# Altium footprint library KF2EDGK5.08.PcbLib: 29 footprints (part 2 of 2)
Each footprint in its own frame and in the unit in brackets; x right, y up, seen from the top. Pads: shape width x height; smd on the part's side, far side on the other; paste and mask are expansions set on the pad; w line width, h text height; cw(c..) or ccw(c..) is an arc to the next point about the centre after c.
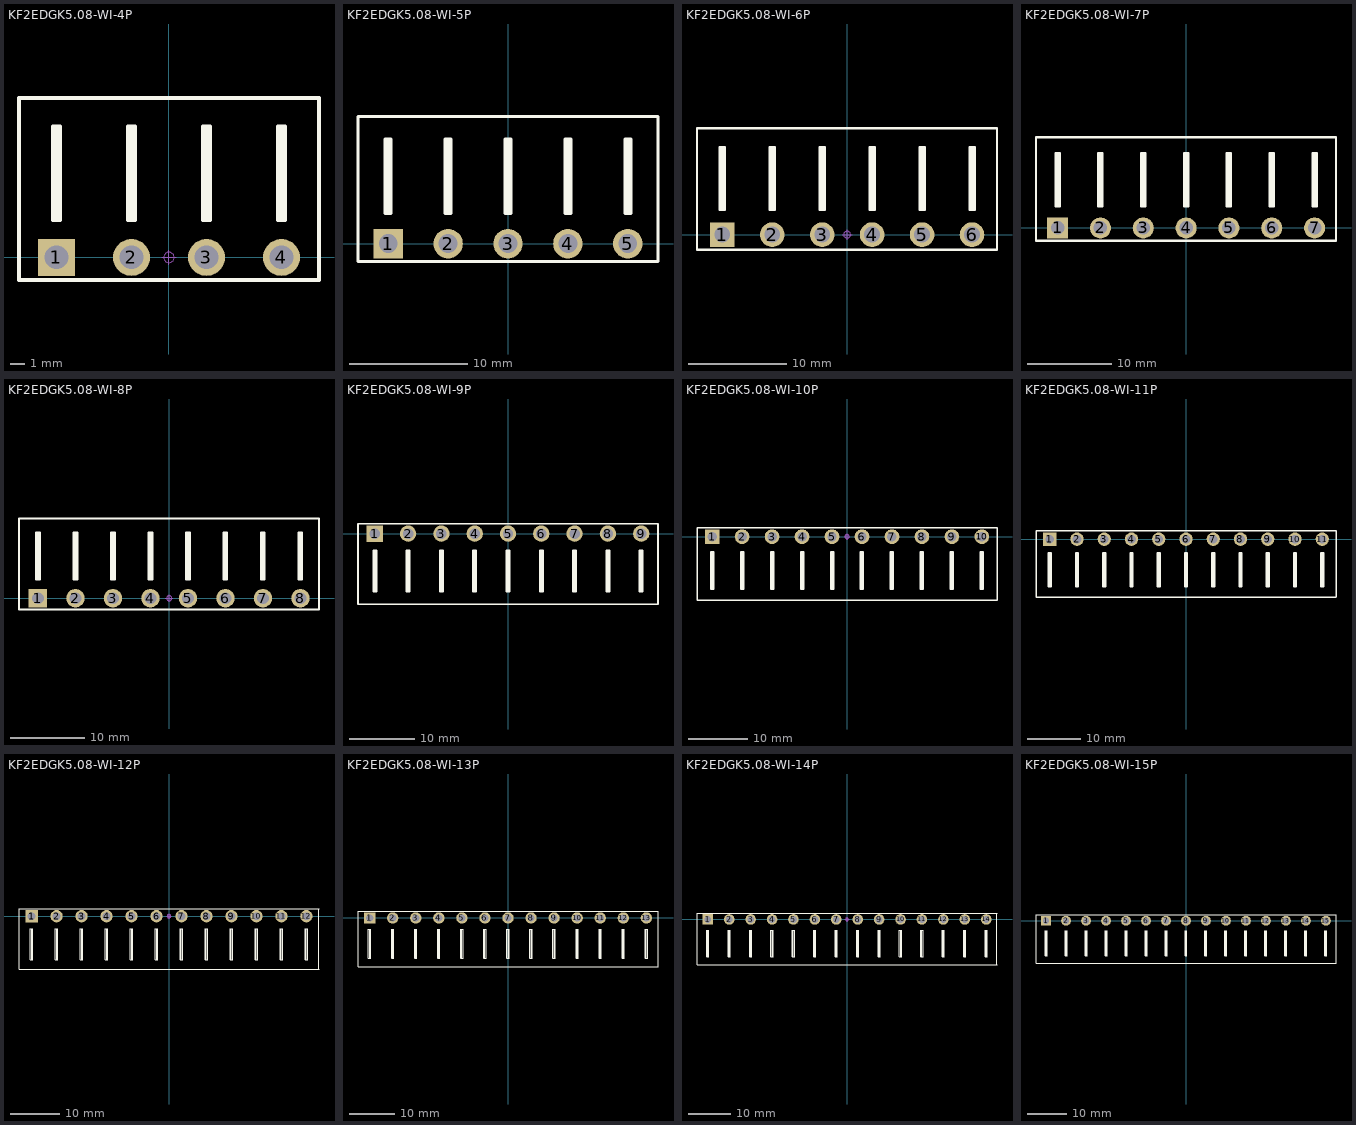
[diagram p1: the footprints below, top view; thin cyan lines are the x and y axes]

## KF2EDGK5.08-WI-4P [mm] "卧插端子"
pads (4):
  rect 2.5x2.5 hole 1.6: 1(-7.62,0)
  round 2.5 hole 1.6: 2(-2.54,0) 3(2.54,0) 4(7.62,0)
Top Overlay:
  lines w0.254: -7.62,2.54 -7.62,8.89 ; -2.54,2.54 -2.54,8.89 ; 2.54,2.54 2.54,8.89 ; 7.62,2.54 7.62,8.89 ; -7.62,8.89 -7.874,8.89 -7.874,2.54 -7.366,2.54 -7.366,8.89 -7.62,8.89 ; -2.54,8.89 -2.286,8.89 -2.286,2.54 -2.794,2.54 -2.794,8.89 -2.54,8.89 ; 2.54,8.89 2.794,8.89 2.794,2.54 2.286,2.54 2.286,8.89 2.54,8.89 ; 7.62,8.89 7.874,8.89 7.874,2.54 7.366,2.54 7.366,8.89 7.62,8.89 ; -10.16,-1.524 -10.16,10.795 10.16,10.795 10.16,-1.524 -10.16,-1.524
Mechanical 15:
  circle w0.05: c0,0 r0.35
  lines w0.05: -0.5,0 0.5,0 ; 0,-0.5 0,0.5
3D body "KF2EDGK-1P_H.STEP": height 8.5, standoff -3, extent 5.08,-0.5 10.16,10.8
3D body "KF2EDGK-1P_H.STEP": height 8.5, standoff -3, extent 0,-0.5 5.08,10.8
3D body "KF2EDGK-1P_H.STEP": height 8.5, standoff -3, extent -5.08,-0.5 0,10.8
3D body "KF2EDGK-1P_H.STEP": height 8.5, standoff -3, extent -10.16,-0.5 -5.08,10.8

## KF2EDGK5.08-WI-5P [mm] "卧插端子"
pads (5):
  rect 2.5x2.5 hole 1.6: 1(-10.16,0)
  round 2.5 hole 1.6: 2(-5.08,0) 3(0,0) 4(5.08,0) 5(10.16,0)
Top Overlay:
  lines w0.254: -10.16,2.54 -10.16,8.89 ; -5.08,2.54 -5.08,8.89 ; 0,2.54 0,8.89 ; 5.08,2.54 5.08,8.89 ; 10.16,2.54 10.16,8.89 ; -10.16,8.89 -9.906,8.89 -9.906,2.54 -10.414,2.54 -10.414,8.89 -10.16,8.89 ; -5.08,8.89 -4.826,8.89 -4.826,2.54 -5.334,2.54 -5.334,8.89 -5.08,8.89 ; 0,8.89 0.254,8.89 0.254,2.54 -0.254,2.54 -0.254,8.89 0,8.89 ; 5.08,8.89 5.334,8.89 5.334,2.54 4.826,2.54 4.826,8.89 5.08,8.89 ; 10.16,8.89 10.414,8.89 10.414,2.54 9.906,2.54 9.906,8.89 10.16,8.89 ; -12.725,-1.524 12.725,-1.524 12.725,10.795 -12.725,10.795 -12.725,-1.524
Mechanical 15:
  circle w0.05: c0,0 r0.35
  lines w0.05: -0.5,0 0.5,0 ; 0,-0.5 0,0.5
3D body "KF2EDGK-1P_H.STEP": height 8.5, standoff -3, extent 7.62,-0.5 12.7,10.8
3D body "KF2EDGK-1P_H.STEP": height 8.5, standoff -3, extent 2.54,-0.5 7.62,10.8
3D body "KF2EDGK-1P_H.STEP": height 8.5, standoff -3, extent -2.54,-0.5 2.54,10.8
3D body "KF2EDGK-1P_H.STEP": height 8.5, standoff -3, extent -7.62,-0.5 -2.54,10.8
3D body "KF2EDGK-1P_H.STEP": height 8.5, standoff -3, extent -12.7,-0.5 -7.62,10.8

## KF2EDGK5.08-WI-6P [mm] "卧插端子"
pads (6):
  rect 2.5x2.5 hole 1.6: 1(-12.7,0)
  round 2.5 hole 1.6: 2(-7.62,0) 3(-2.54,0) 4(2.54,0) 5(7.62,0) 6(12.7,0)
Top Overlay:
  lines w0.254: -12.7,2.54 -12.7,8.89 ; -7.62,2.54 -7.62,8.89 ; -2.54,2.54 -2.54,8.89 ; 2.54,2.54 2.54,8.89 ; 7.62,2.54 7.62,8.89 ; 12.7,2.54 12.7,8.89 ; -12.7,8.89 -12.954,8.89 -12.954,2.54 -12.446,2.54 -12.446,8.89 -12.7,8.89 ; -7.62,8.89 -7.366,8.89 -7.366,2.54 -7.874,2.54 -7.874,8.89 -7.62,8.89 ; -2.54,8.89 -2.286,8.89 -2.286,2.54 -2.794,2.54 -2.794,8.89 -2.54,8.89 ; 2.54,8.89 2.794,8.89 2.794,2.54 2.286,2.54 2.286,8.89 2.54,8.89 ; 7.62,8.89 7.874,8.89 7.874,2.54 7.366,2.54 7.366,8.89 7.62,8.89 ; 12.7,8.89 12.954,8.89 12.954,2.54 12.446,2.54 12.446,8.89 12.7,8.89 ; -15.265,-1.524 -15.265,10.8 15.24,10.8 15.24,-1.524 -15.265,-1.524
Mechanical 15:
  circle w0.05: c0,0 r0.35
  lines w0.05: -0.5,0 0.5,0 ; 0,-0.5 0,0.5
3D body "KF2EDGK-1P_H.STEP": height 8.5, standoff -3, extent -15.24,-0.5 -10.16,10.8
3D body "KF2EDGK-1P_H.STEP": height 8.5, standoff -3, extent -10.16,-0.5 -5.08,10.8
3D body "KF2EDGK-1P_H.STEP": height 8.5, standoff -3, extent -5.08,-0.5 0,10.8
3D body "KF2EDGK-1P_H.STEP": height 8.5, standoff -3, extent 0,-0.5 5.08,10.8
3D body "KF2EDGK-1P_H.STEP": height 8.5, standoff -3, extent 5.08,-0.5 10.16,10.8
3D body "KF2EDGK-1P_H.STEP": height 8.5, standoff -3, extent 10.16,-0.5 15.24,10.8

## KF2EDGK5.08-WI-7P [mm] "卧插端子"
pads (7):
  rect 2.5x2.5 hole 1.6: 1(-15.24,0)
  round 2.5 hole 1.6: 2(-10.16,0) 3(-5.08,0) 4(0,0) 5(5.08,0) 6(10.16,0) 7(15.24,0)
Top Overlay:
  lines w0.254: -15.24,2.54 -15.24,8.89 ; -10.16,2.54 -10.16,8.89 ; -5.08,2.54 -5.08,8.89 ; 0,2.54 0,8.89 ; 5.08,2.54 5.08,8.89 ; 10.16,2.54 10.16,8.89 ; 15.24,2.54 15.24,8.89 ; -15.24,8.89 -14.986,8.89 -14.986,2.54 -15.494,2.54 -15.494,8.89 -15.24,8.89 ; -10.16,8.89 -10.414,8.89 -10.414,2.54 -9.906,2.54 -9.906,8.89 -10.16,8.89 ; -5.08,8.89 -5.334,8.89 -5.334,2.54 -4.826,2.54 -4.826,8.89 -5.08,8.89 ; 0,8.89 -0.254,8.89 -0.254,2.54 0.254,2.54 0.254,8.89 0,8.89 ; 5.08,8.89 4.826,8.89 4.826,2.54 5.334,2.54 5.334,8.89 5.08,8.89 ; 10.16,8.89 9.906,8.89 9.906,2.54 10.414,2.54 10.414,8.89 10.16,8.89 ; 15.24,8.89 14.986,8.89 14.986,2.54 15.494,2.54 15.494,8.89 15.24,8.89 ; -17.805,-1.524 17.78,-1.524 17.78,10.77 -17.805,10.77 -17.805,-1.524
Mechanical 15:
  circle w0.05: c0,0 r0.35
  lines w0.05: -0.5,0 0.5,0 ; 0,-0.5 0,0.5
3D body "KF2EDGK-1P_H.STEP": height 8.5, standoff -3, extent 12.7,-0.5 17.78,10.8
3D body "KF2EDGK-1P_H.STEP": height 8.5, standoff -3, extent 7.62,-0.5 12.7,10.8
3D body "KF2EDGK-1P_H.STEP": height 8.5, standoff -3, extent 2.54,-0.5 7.62,10.8
3D body "KF2EDGK-1P_H.STEP": height 8.5, standoff -3, extent -2.54,-0.5 2.54,10.8
3D body "KF2EDGK-1P_H.STEP": height 8.5, standoff -3, extent -7.62,-0.5 -2.54,10.8
3D body "KF2EDGK-1P_H.STEP": height 8.5, standoff -3, extent -12.7,-0.5 -7.62,10.8
3D body "KF2EDGK-1P_H.STEP": height 8.5, standoff -3, extent -17.78,-0.5 -12.7,10.8

## KF2EDGK5.08-WI-8P [mm] "卧插端子"
pads (8):
  rect 2.5x2.5 hole 1.6: 1(-17.78,0)
  round 2.5 hole 1.6: 2(-12.7,0) 3(-7.62,0) 4(-2.54,0) 5(2.54,0) 6(7.62,0) 7(12.7,0) 8(17.78,0)
Top Overlay:
  lines w0.254: -17.78,2.54 -17.78,8.89 ; -12.7,2.54 -12.7,8.89 ; -7.62,2.54 -7.62,8.89 ; -2.54,2.54 -2.54,8.89 ; 2.54,2.54 2.54,8.89 ; 7.62,2.54 7.62,8.89 ; 12.7,2.54 12.7,8.89 ; 17.78,2.54 17.78,8.89 ; -17.78,8.89 -17.526,8.89 -17.526,2.54 -18.034,2.54 -18.034,8.89 -17.78,8.89 ; -12.7,8.89 -12.954,8.89 -12.954,2.54 -12.446,2.54 -12.446,8.89 -12.7,8.89 ; -7.62,8.89 -7.874,8.89 -7.874,2.54 -7.366,2.54 -7.366,8.89 -7.62,8.89 ; -2.54,8.89 -2.794,8.89 -2.794,2.54 -2.286,2.54 -2.286,8.89 -2.54,8.89 ; 2.54,8.89 2.286,8.89 2.286,2.54 2.794,2.54 2.794,8.89 2.54,8.89 ; 7.62,8.89 7.366,8.89 7.366,2.54 7.874,2.54 7.874,8.89 7.62,8.89 ; 12.7,8.89 12.446,8.89 12.446,2.54 12.954,2.54 12.954,8.89 12.7,8.89 ; 17.78,8.89 17.526,8.89 17.526,2.54 18.034,2.54 18.034,8.89 17.78,8.89 ; -20.345,-1.524 20.295,-1.524 20.295,10.795 -20.345,10.795 -20.345,-1.524
Mechanical 15:
  circle w0.05: c0,0 r0.35
  lines w0.05: -0.5,0 0.5,0 ; 0,-0.5 0,0.5
3D body "KF2EDGK-1P_H.STEP": height 8.5, standoff -3, extent 15.24,-0.5 20.32,10.8
3D body "KF2EDGK-1P_H.STEP": height 8.5, standoff -3, extent 10.16,-0.5 15.24,10.8
3D body "KF2EDGK-1P_H.STEP": height 8.5, standoff -3, extent 5.08,-0.5 10.16,10.8
3D body "KF2EDGK-1P_H.STEP": height 8.5, standoff -3, extent 0,-0.5 5.08,10.8
3D body "KF2EDGK-1P_H.STEP": height 8.5, standoff -3, extent -5.08,-0.5 0,10.8
3D body "KF2EDGK-1P_H.STEP": height 8.5, standoff -3, extent -10.16,-0.5 -5.08,10.8
3D body "KF2EDGK-1P_H.STEP": height 8.5, standoff -3, extent -15.24,-0.5 -10.16,10.8
3D body "KF2EDGK-1P_H.STEP": height 8.5, standoff -3, extent -20.32,-0.5 -15.24,10.8

## KF2EDGK5.08-WI-9P [mm] "卧插端子"
pads (9):
  rect 2.5x2.5 hole 1.6: 1(-20.32,0)
  round 2.5 hole 1.6: 2(-15.24,0) 3(-10.16,0) 4(-5.08,0) 5(0,0) 6(5.08,0) 7(10.16,0) 8(15.24,0) 9(20.32,0)
Top Overlay:
  lines w0.254: -20.32,-2.54 -20.32,-8.89 ; -15.24,-2.54 -15.24,-8.89 ; -10.16,-2.54 -10.16,-8.89 ; -5.08,-2.54 -5.08,-8.89 ; 0,-2.54 0,-8.89 ; 5.08,-2.54 5.08,-8.89 ; 10.16,-2.54 10.16,-8.89 ; 15.24,-2.54 15.24,-8.89 ; 20.32,-2.54 20.32,-8.89 ; -20.32,-8.89 -20.574,-8.89 -20.574,-2.54 -20.066,-2.54 -20.066,-8.89 -20.32,-8.89 ; -15.24,-8.89 -14.986,-8.89 -14.986,-2.54 -15.494,-2.54 -15.494,-8.89 -15.24,-8.89 ; -10.16,-8.89 -9.906,-8.89 -9.906,-2.54 -10.414,-2.54 -10.414,-8.89 -10.16,-8.89 ; -5.08,-8.89 -4.826,-8.89 -4.826,-2.54 -5.334,-2.54 -5.334,-8.89 -5.08,-8.89 ; 0,-8.89 0.254,-8.89 0.254,-2.54 -0.254,-2.54 -0.254,-8.89 0,-8.89 ; 5.08,-8.89 5.334,-8.89 5.334,-2.54 4.826,-2.54 4.826,-8.89 5.08,-8.89 ; 10.16,-8.89 10.414,-8.89 10.414,-2.54 9.906,-2.54 9.906,-8.89 10.16,-8.89 ; 15.24,-8.89 15.494,-8.89 15.494,-2.54 14.986,-2.54 14.986,-8.89 15.24,-8.89 ; 20.32,-8.89 20.066,-8.89 20.066,-2.54 20.574,-2.54 20.574,-8.89 20.32,-8.89 ; -22.885,-10.795 -22.885,1.524 22.885,1.524 22.885,-10.795 -22.885,-10.795
Mechanical 15:
  circle w0.05: c0,0 r0.35
  lines w0.05: -0.5,0 0.5,0 ; 0,-0.5 0,0.5
3D body "KF2EDGK-1P_H.STEP": height 8.5, standoff -3, extent 12.7,-10.8 17.78,0.5
3D body "KF2EDGK-1P_H.STEP": height 8.5, standoff -3, extent 7.62,-10.8 12.7,0.5
3D body "KF2EDGK-1P_H.STEP": height 8.5, standoff -3, extent 2.54,-10.8 7.62,0.5
3D body "KF2EDGK-1P_H.STEP": height 8.5, standoff -3, extent -2.54,-10.8 2.54,0.5
3D body "KF2EDGK-1P_H.STEP": height 8.5, standoff -3, extent -7.62,-10.8 -2.54,0.5
3D body "KF2EDGK-1P_H.STEP": height 8.5, standoff -3, extent -12.7,-10.8 -7.62,0.5
3D body "KF2EDGK-1P_H.STEP": height 8.5, standoff -3, extent -17.78,-10.8 -12.7,0.5
3D body "KF2EDGK-1P_H.STEP": height 8.5, standoff -3, extent -22.86,-10.8 -17.78,0.5
3D body "KF2EDGK-1P_H.STEP": height 8.5, standoff -3, extent 17.78,-10.8 22.86,0.5

## KF2EDGK5.08-WI-10P [mm] "卧插端子"
pads (10):
  rect 2.5x2.5 hole 1.6: 1(-22.86,0)
  round 2.5 hole 1.6: 2(-17.78,0) 3(-12.7,0) 4(-7.62,0) 5(-2.54,0) 6(2.54,0) 7(7.62,0) 8(12.7,0) 9(17.78,0) 10(22.86,0)
Top Overlay:
  lines w0.254: -22.86,-2.54 -22.86,-8.89 ; -17.78,-2.54 -17.78,-8.89 ; -12.7,-2.54 -12.7,-8.89 ; -7.62,-2.54 -7.62,-8.89 ; -2.54,-2.54 -2.54,-8.89 ; 2.54,-2.54 2.54,-8.89 ; 7.62,-2.54 7.62,-8.89 ; 12.7,-2.54 12.7,-8.89 ; 17.78,-2.54 17.78,-8.89 ; 20.325,-10.795 25.425,-10.795 25.425,1.524 20.345,1.524 -25.425,1.524 -25.425,-10.795 20.345,-10.795 ; 22.86,-2.54 22.86,-8.89 ; -22.86,-8.89 -22.606,-8.89 -22.606,-2.54 -23.114,-2.54 -23.114,-8.89 -22.86,-8.89 ; -17.78,-8.89 -18.034,-8.89 -18.034,-2.54 -17.526,-2.54 -17.526,-8.89 -17.78,-8.89 ; -12.7,-8.89 -12.954,-8.89 -12.954,-2.54 -12.446,-2.54 -12.446,-8.89 -12.7,-8.89 ; -7.62,-8.89 -7.874,-8.89 -7.874,-2.54 -7.366,-2.54 -7.366,-8.89 -7.62,-8.89 ; -2.54,-8.89 -2.794,-8.89 -2.794,-2.54 -2.286,-2.54 -2.286,-8.89 -2.54,-8.89 ; 2.54,-8.89 2.286,-8.89 2.286,-2.54 2.794,-2.54 2.794,-8.89 2.54,-8.89 ; 7.62,-8.89 7.366,-8.89 7.366,-2.54 7.874,-2.54 7.874,-8.89 7.62,-8.89 ; 12.7,-8.89 12.446,-8.89 12.446,-2.54 12.954,-2.54 12.954,-8.89 12.7,-8.89 ; 17.78,-8.89 18.034,-8.89 18.034,-2.54 17.526,-2.54 17.526,-8.89 17.78,-8.89 ; 22.86,-8.89 22.606,-8.89 22.606,-2.54 23.114,-2.54 23.114,-8.89 22.86,-8.89
Mechanical 15:
  circle w0.05: c0,0 r0.35
  lines w0.05: -0.5,0 0.5,0 ; 0,-0.5 0,0.5
3D body "KF2EDGK-1P_H.STEP": height 8.5, standoff -3, extent 15.24,-10.8 20.32,0.5
3D body "KF2EDGK-1P_H.STEP": height 8.5, standoff -3, extent -25.4,-10.8 -20.32,0.5
3D body "KF2EDGK-1P_H.STEP": height 8.5, standoff -3, extent -20.32,-10.8 -15.24,0.5
3D body "KF2EDGK-1P_H.STEP": height 8.5, standoff -3, extent -15.24,-10.8 -10.16,0.5
3D body "KF2EDGK-1P_H.STEP": height 8.5, standoff -3, extent -10.16,-10.8 -5.08,0.5
3D body "KF2EDGK-1P_H.STEP": height 8.5, standoff -3, extent -5.08,-10.8 0,0.5
3D body "KF2EDGK-1P_H.STEP": height 8.5, standoff -3, extent 0,-10.8 5.08,0.5
3D body "KF2EDGK-1P_H.STEP": height 8.5, standoff -3, extent 5.08,-10.8 10.16,0.5
3D body "KF2EDGK-1P_H.STEP": height 8.5, standoff -3, extent 10.16,-10.8 15.24,0.5
3D body "KF2EDGK-1P_H.STEP": height 8.5, standoff -3, extent 20.32,-10.8 25.4,0.5

## KF2EDGK5.08-WI-11P [mm] "卧插端子"
pads (11):
  rect 2.5x2.5 hole 1.6: 1(-25.4,0)
  round 2.5 hole 1.6: 2(-20.32,0) 3(-15.24,0) 4(-10.16,0) 5(-5.08,0) 6(0,0) 7(5.08,0) 8(10.16,0) 9(15.24,0) 10(20.32,0) 11(25.4,0)
Top Overlay:
  lines w0.254: -25.4,-2.54 -25.4,-8.89 ; -20.32,-2.54 -20.32,-8.89 ; -15.24,-2.54 -15.24,-8.89 ; -10.16,-2.54 -10.16,-8.89 ; -5.08,-2.54 -5.08,-8.89 ; 0,-2.54 0,-8.89 ; 5.08,-2.54 5.08,-8.89 ; 10.16,-2.54 10.16,-8.89 ; 15.24,-2.54 15.24,-8.89 ; 17.785,-10.795 22.885,-10.795 ; 17.805,-10.795 -27.965,-10.795 -27.965,1.524 17.805,1.524 22.885,1.524 27.965,1.524 27.965,-10.775 ; 20.32,-2.54 20.32,-8.89 ; 22.865,-10.795 27.965,-10.795 ; 25.4,-2.54 25.4,-8.89 ; -25.4,-8.89 -25.146,-8.89 -25.146,-2.54 -25.654,-2.54 -25.654,-8.89 -25.4,-8.89 ; -20.32,-8.89 -20.574,-8.89 -20.574,-2.54 -20.066,-2.54 -20.066,-8.89 -20.32,-8.89 ; -15.24,-8.89 -15.494,-8.89 -15.494,-2.54 -14.986,-2.54 -14.986,-8.89 -15.24,-8.89 ; -10.16,-8.89 -10.414,-8.89 -10.414,-2.54 -9.906,-2.54 -9.906,-8.89 -10.16,-8.89 ; -5.08,-8.89 -5.334,-8.89 -5.334,-2.54 -4.826,-2.54 -4.826,-8.89 -5.08,-8.89 ; 0,-8.89 -0.254,-8.89 -0.254,-2.54 0.254,-2.54 0.254,-8.89 0,-8.89 ; 5.08,-8.89 4.826,-8.89 4.826,-2.54 5.334,-2.54 5.334,-8.89 5.08,-8.89 ; 10.16,-8.89 9.906,-8.89 9.906,-2.54 10.414,-2.54 10.414,-8.89 10.16,-8.89 ; 15.24,-8.89 15.494,-8.89 15.494,-2.54 14.986,-2.54 14.986,-8.89 15.24,-8.89 ; 20.32,-8.89 20.066,-8.89 20.066,-2.54 20.574,-2.54 20.574,-8.89 20.32,-8.89 ; 25.4,-8.89 25.654,-8.89 25.654,-2.54 25.146,-2.54 25.146,-8.89 25.4,-8.89
Mechanical 15:
  circle w0.05: c0,0 r0.35
  lines w0.05: -0.5,0 0.5,0 ; 0,-0.5 0,0.5
3D body "KF2EDGK-1P_H.STEP": height 8.5, standoff -3, extent 12.7,-10.8 17.78,0.5
3D body "KF2EDGK-1P_H.STEP": height 8.5, standoff -3, extent -27.94,-10.8 -22.86,0.5
3D body "KF2EDGK-1P_H.STEP": height 8.5, standoff -3, extent -22.86,-10.8 -17.78,0.5
3D body "KF2EDGK-1P_H.STEP": height 8.5, standoff -3, extent -17.78,-10.8 -12.7,0.5
3D body "KF2EDGK-1P_H.STEP": height 8.5, standoff -3, extent -12.7,-10.8 -7.62,0.5
3D body "KF2EDGK-1P_H.STEP": height 8.5, standoff -3, extent -7.62,-10.8 -2.54,0.5
3D body "KF2EDGK-1P_H.STEP": height 8.5, standoff -3, extent -2.54,-10.8 2.54,0.5
3D body "KF2EDGK-1P_H.STEP": height 8.5, standoff -3, extent 2.54,-10.8 7.62,0.5
3D body "KF2EDGK-1P_H.STEP": height 8.5, standoff -3, extent 7.62,-10.8 12.7,0.5
3D body "KF2EDGK-1P_H.STEP": height 8.5, standoff -3, extent 17.78,-10.8 22.86,0.5
3D body "KF2EDGK-1P_H.STEP": height 8.5, standoff -3, extent 22.86,-10.8 27.94,0.5

## KF2EDGK5.08-WI-12P [mm] "卧插端子"
pads (12):
  rect 2.5x2.5 hole 1.6: 1(-27.94,0)
  round 2.5 hole 1.6: 2(-22.86,0) 3(-17.78,0) 4(-12.7,0) 5(-7.62,0) 6(-2.54,0) 7(2.54,0) 8(7.62,0) 9(12.7,0) 10(17.78,0) 11(22.86,0) 12(27.94,0)
Top Overlay:
  lines w0.254: -27.94,-2.54 -27.94,-8.89 ; -22.86,-2.54 -22.86,-8.89 ; -17.78,-2.54 -17.78,-8.89 ; -12.7,-2.54 -12.7,-8.89 ; -7.62,-2.54 -7.62,-8.89 ; -2.54,-2.54 -2.54,-8.89 ; 2.54,-2.54 2.54,-8.89 ; 7.62,-2.54 7.62,-8.89 ; 12.7,-2.54 12.7,-8.89 ; 15.245,-10.795 20.345,-10.795 ; 15.265,-10.795 -30.505,-10.795 -30.505,1.524 15.265,1.524 20.345,1.524 25.425,1.524 30.505,1.524 ; 17.78,-2.54 17.78,-8.89 ; 20.325,-10.795 25.425,-10.795 ; 22.86,-2.54 22.86,-8.89 ; 25.405,-10.795 30.505,-10.795 ; 27.94,-2.54 27.94,-8.89 ; 30.48,-10.8 30.48,1.524 ; -27.94,-8.89 -28.194,-8.89 -28.194,-2.54 -27.686,-2.54 -27.686,-8.89 -27.94,-8.89 ; -22.86,-8.89 -22.606,-8.89 -22.606,-2.54 -23.114,-2.54 -23.114,-8.89 -22.86,-8.89 ; -17.78,-8.89 -17.526,-8.89 -17.526,-2.54 -18.034,-2.54 -18.034,-8.89 -17.78,-8.89 ; -12.7,-8.89 -12.446,-8.89 -12.446,-2.54 -12.954,-2.54 -12.954,-8.89 -12.7,-8.89 ; -7.62,-8.89 -7.366,-8.89 -7.366,-2.54 -7.874,-2.54 -7.874,-8.89 -7.62,-8.89 ; -2.54,-8.89 -2.286,-8.89 -2.286,-2.54 -2.794,-2.54 -2.794,-8.89 -2.54,-8.89 ; 2.54,-8.89 2.794,-8.89 2.794,-2.54 2.286,-2.54 2.286,-8.89 2.54,-8.89 ; 7.62,-8.89 7.874,-8.89 7.874,-2.54 7.366,-2.54 7.366,-8.89 7.62,-8.89 ; 12.7,-8.89 12.446,-8.89 12.446,-2.54 12.954,-2.54 12.954,-8.89 12.7,-8.89 ; 17.78,-8.89 18.034,-8.89 18.034,-2.54 17.526,-2.54 17.526,-8.89 17.78,-8.89 ; 22.86,-8.89 22.606,-8.89 22.606,-2.54 23.114,-2.54 23.114,-8.89 22.86,-8.89 ; 27.94,-8.89 27.686,-8.89 27.686,-2.54 28.194,-2.54 28.194,-8.89 27.94,-8.89
Mechanical 15:
  circle w0.05: c0,0 r0.35
  lines w0.05: -0.5,0 0.5,0 ; 0,-0.5 0,0.5
3D body "KF2EDGK-1P_H.STEP": height 8.5, standoff -3, extent 25.4,-10.8 30.48,0.5
3D body "KF2EDGK-1P_H.STEP": height 8.5, standoff -3, extent 20.32,-10.8 25.4,0.5
3D body "KF2EDGK-1P_H.STEP": height 8.5, standoff -3, extent 15.24,-10.8 20.32,0.5
3D body "KF2EDGK-1P_H.STEP": height 8.5, standoff -3, extent 5.08,-10.8 10.16,0.5
3D body "KF2EDGK-1P_H.STEP": height 8.5, standoff -3, extent 0,-10.8 5.08,0.5
3D body "KF2EDGK-1P_H.STEP": height 8.5, standoff -3, extent -5.08,-10.8 0,0.5
3D body "KF2EDGK-1P_H.STEP": height 8.5, standoff -3, extent -10.16,-10.8 -5.08,0.5
3D body "KF2EDGK-1P_H.STEP": height 8.5, standoff -3, extent -15.24,-10.8 -10.16,0.5
3D body "KF2EDGK-1P_H.STEP": height 8.5, standoff -3, extent -20.32,-10.8 -15.24,0.5
3D body "KF2EDGK-1P_H.STEP": height 8.5, standoff -3, extent -25.4,-10.8 -20.32,0.5
3D body "KF2EDGK-1P_H.STEP": height 8.5, standoff -3, extent -30.48,-10.8 -25.4,0.5
3D body "KF2EDGK-1P_H.STEP": height 8.5, standoff -3, extent 10.16,-10.8 15.24,0.5

## KF2EDGK5.08-WI-13P [mm] "卧插端子"
pads (13):
  rect 2.5x2.5 hole 1.6: 1(-30.48,0)
  round 2.5 hole 1.6: 2(-25.4,0) 3(-20.32,0) 4(-15.24,0) 5(-10.16,0) 6(-5.08,0) 7(0,0) 8(5.08,0) 9(10.16,0) 10(15.24,0) 11(20.32,0) 12(25.4,0) 13(30.48,0)
Top Overlay:
  lines w0.254: -30.48,-2.54 -30.48,-8.89 ; -25.4,-2.54 -25.4,-8.89 ; -20.32,-2.54 -20.32,-8.89 ; -15.24,-2.54 -15.24,-8.89 ; -10.16,-2.54 -10.16,-8.89 ; -5.08,-2.54 -5.08,-8.89 ; 0,-2.54 0,-8.89 ; 5.08,-2.54 5.08,-8.89 ; 10.16,-2.54 10.16,-8.89 ; 12.705,-10.795 17.805,-10.795 ; 12.725,-10.795 -33.045,-10.795 -33.045,1.524 12.725,1.524 17.805,1.524 22.885,1.524 27.965,1.524 33.045,1.524 33.045,-10.775 ; 15.24,-2.54 15.24,-8.89 ; 17.785,-10.795 22.885,-10.795 ; 20.32,-2.54 20.32,-8.89 ; 22.865,-10.795 27.965,-10.795 ; 25.4,-2.54 25.4,-8.89 ; 27.945,-10.795 33.045,-10.795 ; 30.48,-2.54 30.48,-8.89 ; -30.48,-8.89 -30.734,-8.89 -30.734,-2.54 -30.226,-2.54 -30.226,-8.89 -30.48,-8.89 ; -25.4,-8.89 -25.146,-8.89 -25.146,-2.54 -25.654,-2.54 -25.654,-8.89 -25.4,-8.89 ; -20.32,-8.89 -20.066,-8.89 -20.066,-2.54 -20.574,-2.54 -20.574,-8.89 -20.32,-8.89 ; -15.24,-8.89 -14.986,-8.89 -14.986,-2.54 -15.494,-2.54 -15.494,-8.89 -15.24,-8.89 ; -10.16,-8.89 -9.906,-8.89 -9.906,-2.54 -10.414,-2.54 -10.414,-8.89 -10.16,-8.89 ; -5.08,-8.89 -4.826,-8.89 -4.826,-2.54 -5.334,-2.54 -5.334,-8.89 -5.08,-8.89 ; 0,-8.89 0.254,-8.89 0.254,-2.54 -0.254,-2.54 -0.254,-8.89 0,-8.89 ; 5.08,-8.89 5.334,-8.89 5.334,-2.54 4.826,-2.54 4.826,-8.89 5.08,-8.89 ; 10.16,-8.89 9.906,-8.89 9.906,-2.54 10.414,-2.54 10.414,-8.89 10.16,-8.89 ; 15.24,-8.89 15.494,-8.89 15.494,-2.54 14.986,-2.54 14.986,-8.89 15.24,-8.89 ; 20.32,-8.89 20.066,-8.89 20.066,-2.54 20.574,-2.54 20.574,-8.89 20.32,-8.89 ; 25.4,-8.89 25.146,-8.89 25.146,-2.54 25.654,-2.54 25.654,-8.89 25.4,-8.89 ; 30.48,-8.89 30.226,-8.89 30.226,-2.54 30.734,-2.54 30.734,-8.89 30.48,-8.89
Mechanical 15:
  circle w0.05: c0,0 r0.35
  lines w0.05: -0.5,0 0.5,0 ; 0,-0.5 0,0.5
3D body "KF2EDGK-1P_H.STEP": height 8.5, standoff -3, extent 27.94,-10.8 33.02,0.5
3D body "KF2EDGK-1P_H.STEP": height 8.5, standoff -3, extent 22.86,-10.8 27.94,0.5
3D body "KF2EDGK-1P_H.STEP": height 8.5, standoff -3, extent 17.78,-10.8 22.86,0.5
3D body "KF2EDGK-1P_H.STEP": height 8.5, standoff -3, extent 12.7,-10.8 17.78,0.5
3D body "KF2EDGK-1P_H.STEP": height 8.5, standoff -3, extent 2.54,-10.8 7.62,0.5
3D body "KF2EDGK-1P_H.STEP": height 8.5, standoff -3, extent -2.54,-10.8 2.54,0.5
3D body "KF2EDGK-1P_H.STEP": height 8.5, standoff -3, extent -7.62,-10.8 -2.54,0.5
3D body "KF2EDGK-1P_H.STEP": height 8.5, standoff -3, extent -12.7,-10.8 -7.62,0.5
3D body "KF2EDGK-1P_H.STEP": height 8.5, standoff -3, extent -17.78,-10.8 -12.7,0.5
3D body "KF2EDGK-1P_H.STEP": height 8.5, standoff -3, extent -22.86,-10.8 -17.78,0.5
3D body "KF2EDGK-1P_H.STEP": height 8.5, standoff -3, extent -27.94,-10.8 -22.86,0.5
3D body "KF2EDGK-1P_H.STEP": height 8.5, standoff -3, extent -33.02,-10.8 -27.94,0.5
3D body "KF2EDGK-1P_H.STEP": height 8.5, standoff -3, extent 7.62,-10.8 12.7,0.5

## KF2EDGK5.08-WI-14P [mm] "卧插端子"
pads (14):
  rect 2.5x2.5 hole 1.6: 1(-33.02,0)
  round 2.5 hole 1.6: 2(-27.94,0) 3(-22.86,0) 4(-17.78,0) 5(-12.7,0) 6(-7.62,0) 7(-2.54,0) 8(2.54,0) 9(7.62,0) 10(12.7,0) 11(17.78,0) 12(22.86,0) 13(27.94,0) 14(33.02,0)
Top Overlay:
  lines w0.254: -33.02,-2.54 -33.02,-8.89 ; -27.94,-2.54 -27.94,-8.89 ; -22.86,-2.54 -22.86,-8.89 ; -17.78,-2.54 -17.78,-8.89 ; -12.7,-2.54 -12.7,-8.89 ; -7.62,-2.54 -7.62,-8.89 ; -2.54,-2.54 -2.54,-8.89 ; 2.54,-2.54 2.54,-8.89 ; 7.62,-2.54 7.62,-8.89 ; 10.165,-10.795 15.265,-10.795 ; 10.185,-10.795 -35.585,-10.795 -35.585,1.524 10.185,1.524 15.265,1.524 20.345,1.524 25.425,1.524 30.505,1.524 35.585,1.524 ; 12.7,-2.54 12.7,-8.89 ; 15.245,-10.795 20.345,-10.795 ; 17.78,-2.54 17.78,-8.89 ; 20.325,-10.795 25.425,-10.795 ; 22.86,-2.54 22.86,-8.89 ; 25.405,-10.795 30.505,-10.795 ; 27.94,-2.54 27.94,-8.89 ; 30.485,-10.795 35.585,-10.795 ; 33.02,-2.54 33.02,-8.89 ; 35.56,-10.77 35.56,1.524 ; -33.02,-8.89 -32.766,-8.89 -32.766,-2.54 -33.274,-2.54 -33.274,-8.89 -33.02,-8.89 ; -27.94,-8.89 -28.194,-8.89 -28.194,-2.54 -27.686,-2.54 -27.686,-8.89 -27.94,-8.89 ; -22.86,-8.89 -23.114,-8.89 -23.114,-2.54 -22.606,-2.54 -22.606,-8.89 -22.86,-8.89 ; -17.78,-8.89 -18.034,-8.89 -18.034,-2.54 -17.526,-2.54 -17.526,-8.89 -17.78,-8.89 ; -12.7,-8.89 -12.954,-8.89 -12.954,-2.54 -12.446,-2.54 -12.446,-8.89 -12.7,-8.89 ; -7.62,-8.89 -7.874,-8.89 -7.874,-2.54 -7.366,-2.54 -7.366,-8.89 -7.62,-8.89 ; -2.54,-8.89 -2.794,-8.89 -2.794,-2.54 -2.286,-2.54 -2.286,-8.89 -2.54,-8.89 ; 2.54,-8.89 2.286,-8.89 2.286,-2.54 2.794,-2.54 2.794,-8.89 2.54,-8.89 ; 7.62,-8.89 7.874,-8.89 7.874,-2.54 7.366,-2.54 7.366,-8.89 7.62,-8.89 ; 12.7,-8.89 12.446,-8.89 12.446,-2.54 12.954,-2.54 12.954,-8.89 12.7,-8.89 ; 17.78,-8.89 18.034,-8.89 18.034,-2.54 17.526,-2.54 17.526,-8.89 17.78,-8.89 ; 22.86,-8.89 23.114,-8.89 23.114,-2.54 22.606,-2.54 22.606,-8.89 22.86,-8.89 ; 27.94,-8.89 28.194,-8.89 28.194,-2.54 27.686,-2.54 27.686,-8.89 27.94,-8.89 ; 33.02,-8.89 33.274,-8.89 33.274,-2.54 32.766,-2.54 32.766,-8.89 33.02,-8.89
Mechanical 15:
  circle w0.05: c0,0 r0.35
  lines w0.05: -0.5,0 0.5,0 ; 0,-0.5 0,0.5
3D body "KF2EDGK-1P_H.STEP": height 8.5, standoff -3, extent 5.08,-10.8 10.16,0.5
3D body "KF2EDGK-1P_H.STEP": height 8.5, standoff -3, extent -35.56,-10.8 -30.48,0.5
3D body "KF2EDGK-1P_H.STEP": height 8.5, standoff -3, extent -30.48,-10.8 -25.4,0.5
3D body "KF2EDGK-1P_H.STEP": height 8.5, standoff -3, extent -25.4,-10.8 -20.32,0.5
3D body "KF2EDGK-1P_H.STEP": height 8.5, standoff -3, extent -20.32,-10.8 -15.24,0.5
3D body "KF2EDGK-1P_H.STEP": height 8.5, standoff -3, extent -15.24,-10.8 -10.16,0.5
3D body "KF2EDGK-1P_H.STEP": height 8.5, standoff -3, extent -10.16,-10.8 -5.08,0.5
3D body "KF2EDGK-1P_H.STEP": height 8.5, standoff -3, extent -5.08,-10.8 0,0.5
3D body "KF2EDGK-1P_H.STEP": height 8.5, standoff -3, extent 0,-10.8 5.08,0.5
3D body "KF2EDGK-1P_H.STEP": height 8.5, standoff -3, extent 10.16,-10.8 15.24,0.5
3D body "KF2EDGK-1P_H.STEP": height 8.5, standoff -3, extent 15.24,-10.8 20.32,0.5
3D body "KF2EDGK-1P_H.STEP": height 8.5, standoff -3, extent 20.32,-10.8 25.4,0.5
3D body "KF2EDGK-1P_H.STEP": height 8.5, standoff -3, extent 25.4,-10.8 30.48,0.5
3D body "KF2EDGK-1P_H.STEP": height 8.5, standoff -3, extent 30.48,-10.8 35.56,0.5

## KF2EDGK5.08-WI-15P [mm] "卧插端子"
pads (15):
  rect 2.5x2.5 hole 1.6: 1(-35.56,0)
  round 2.5 hole 1.6: 2(-30.48,0) 3(-25.4,0) 4(-20.32,0) 5(-15.24,0) 6(-10.16,0) 7(-5.08,0) 8(0,0) 9(5.08,0) 10(10.16,0) 11(15.24,0) 12(20.32,0) 13(25.4,0) 14(30.48,0) 15(35.56,0)
Top Overlay:
  lines w0.254: -35.56,-2.54 -35.56,-8.89 ; -30.48,-2.54 -30.48,-8.89 ; -25.4,-2.54 -25.4,-8.89 ; -20.32,-2.54 -20.32,-8.89 ; -15.24,-2.54 -15.24,-8.89 ; -10.16,-2.54 -10.16,-8.89 ; -5.08,-2.54 -5.08,-8.89 ; 0,-2.54 0,-8.89 ; 5.08,-2.54 5.08,-8.89 ; 7.625,-10.795 12.725,-10.795 ; 7.645,-10.795 -38.125,-10.795 -38.125,1.524 7.645,1.524 12.725,1.524 17.805,1.524 22.885,1.524 27.965,1.524 33.045,1.524 38.125,1.524 38.125,-10.775 ; 10.16,-2.54 10.16,-8.89 ; 12.705,-10.795 17.805,-10.795 ; 15.24,-2.54 15.24,-8.89 ; 17.785,-10.795 22.885,-10.795 ; 20.32,-2.54 20.32,-8.89 ; 22.865,-10.795 27.965,-10.795 ; 25.4,-2.54 25.4,-8.89 ; 27.945,-10.795 33.045,-10.795 ; 30.48,-2.54 30.48,-8.89 ; 33.025,-10.795 38.125,-10.795 ; 35.56,-2.54 35.56,-8.89 ; -35.56,-8.89 -35.306,-8.89 -35.306,-2.54 -35.814,-2.54 -35.814,-8.89 -35.56,-8.89 ; -30.48,-8.89 -30.734,-8.89 -30.734,-2.54 -30.226,-2.54 -30.226,-8.89 -30.48,-8.89 ; -25.4,-8.89 -25.654,-8.89 -25.654,-2.54 -25.146,-2.54 -25.146,-8.89 -25.4,-8.89 ; -20.32,-8.89 -20.574,-8.89 -20.574,-2.54 -20.066,-2.54 -20.066,-8.89 -20.32,-8.89 ; -15.24,-8.89 -15.494,-8.89 -15.494,-2.54 -14.986,-2.54 -14.986,-8.89 -15.24,-8.89 ; -10.16,-8.89 -10.414,-8.89 -10.414,-2.54 -9.906,-2.54 -9.906,-8.89 -10.16,-8.89 ; -5.08,-8.89 -5.334,-8.89 -5.334,-2.54 -4.826,-2.54 -4.826,-8.89 -5.08,-8.89 ; 0,-8.89 -0.254,-8.89 -0.254,-2.54 0.254,-2.54 0.254,-8.89 0,-8.89 ; 5.08,-8.89 5.334,-8.89 5.334,-2.54 4.826,-2.54 4.826,-8.89 5.08,-8.89 ; 10.16,-8.89 9.906,-8.89 9.906,-2.54 10.414,-2.54 10.414,-8.89 10.16,-8.89 ; 15.24,-8.89 15.494,-8.89 15.494,-2.54 14.986,-2.54 14.986,-8.89 15.24,-8.89 ; 20.32,-8.89 20.574,-8.89 20.574,-2.54 20.066,-2.54 20.066,-8.89 20.32,-8.89 ; 25.4,-8.89 25.654,-8.89 25.654,-2.54 25.146,-2.54 25.146,-8.89 25.4,-8.89 ; 30.48,-8.89 30.734,-8.89 30.734,-2.54 30.226,-2.54 30.226,-8.89 30.48,-8.89 ; 35.56,-8.89 35.814,-8.89 35.814,-2.54 35.306,-2.54 35.306,-8.89 35.56,-8.89
Mechanical 15:
  circle w0.05: c0,0 r0.35
  lines w0.05: -0.5,0 0.5,0 ; 0,-0.5 0,0.5
3D body "KF2EDGK-1P_H.STEP": height 8.5, standoff -3, extent 2.54,-10.8 7.62,0.5
3D body "KF2EDGK-1P_H.STEP": height 8.5, standoff -3, extent -38.1,-10.8 -33.02,0.5
3D body "KF2EDGK-1P_H.STEP": height 8.5, standoff -3, extent -33.02,-10.8 -27.94,0.5
3D body "KF2EDGK-1P_H.STEP": height 8.5, standoff -3, extent -27.94,-10.8 -22.86,0.5
3D body "KF2EDGK-1P_H.STEP": height 8.5, standoff -3, extent -22.86,-10.8 -17.78,0.5
3D body "KF2EDGK-1P_H.STEP": height 8.5, standoff -3, extent -17.78,-10.8 -12.7,0.5
3D body "KF2EDGK-1P_H.STEP": height 8.5, standoff -3, extent -12.7,-10.8 -7.62,0.5
3D body "KF2EDGK-1P_H.STEP": height 8.5, standoff -3, extent -7.62,-10.8 -2.54,0.5
3D body "KF2EDGK-1P_H.STEP": height 8.5, standoff -3, extent -2.54,-10.8 2.54,0.5
3D body "KF2EDGK-1P_H.STEP": height 8.5, standoff -3, extent 7.62,-10.8 12.7,0.5
3D body "KF2EDGK-1P_H.STEP": height 8.5, standoff -3, extent 12.7,-10.8 17.78,0.5
3D body "KF2EDGK-1P_H.STEP": height 8.5, standoff -3, extent 17.78,-10.8 22.86,0.5
3D body "KF2EDGK-1P_H.STEP": height 8.5, standoff -3, extent 22.86,-10.8 27.94,0.5
3D body "KF2EDGK-1P_H.STEP": height 8.5, standoff -3, extent 27.94,-10.8 33.02,0.5
3D body "KF2EDGK-1P_H.STEP": height 8.5, standoff -3, extent 33.02,-10.8 38.1,0.5

## PCBComponent_1 [mm]